# Altium integrated library TS5A3157DCKR (1).IntLib: 1 symbol
Pins are listed as number, name and electrical type; pins without a type are passive.

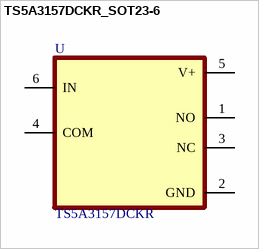
[diagram p0: symbol TS5A3157DCKR_SOT23-6]

## TS5A3157DCKR_SOT23-6
designator U, comment TS5A3157DCKR
5-V, 2:1 (SPDT), 1-channel general-purpose analog switch (6-pin SOT-23, SC70, DSBGA packages) 6-SC70 -40 to 85; MF: Texas Instruments; Digi-Key_Part_Number: 296-17588-1-ND; Package: SOT-SC70-6 Texas Instruments; MP: TS5A3157DCKR; Value: *; SnapEDA_Link: https://www.snapeda.com/parts/TS5A3157DCKR/Texas%20Instruments/view-part/354042/?ref=snap; Texas_Instruments-Purchase-URL: https://snapeda.com/shop?store=Texas+Instruments&id=354042; BuyPart: https://www.snapeda.com/parts/TS5A3157DCKR/Texas%20Instruments/view-part/354042/?ref=eda
footprint SOT65P210X110-6N
pins: 1 NO (power), 2 GND (power), 3 NC (power), 4 COM, 5 V+ (power), 6 IN